# EAGLE library part CMODS6 (library FM_transmitter)
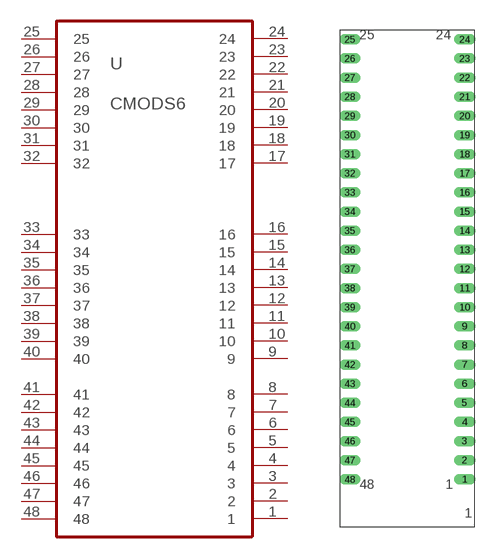
[diagram p0: symbol with the pads of CMODS6_DIP48; footprint CMODS6_DIP48]

Designator prefix -

## CMODS6  [CMODS6_DIP48]
1  1
2  2
3  3
4  4
5  5
6  6
7  7
8  8
9  9  out
10  10  out
11  11  out
12  12  out
13  13  out
14  14  out
15  15  out
16  16  out
17  17  out
18  18  out
19  19  out
20  20  out
21  21  out
22  22  out
23  23  out
24  24  out
25  25  out
26  26  out
27  27  out
28  28  out
29  29  out
30  30  out
31  31  out
32  32  out
33  33  out
34  34  out
35  35  out
36  36  out
37  37  out
38  38  out
39  39  out
40  40  out
41  41
42  42
43  43
44  44
45  45
46  46
47  47
48  48

## Footprint CMODS6_DIP48 (pad centres in mm)
drill 0.914 long: 1 7.62,-25.4; 2 7.62,-22.86; 3 7.62,-20.32; 4 7.62,-17.78; 5 7.62,-15.24; 6 7.62,-12.7; 7 7.62,-10.16; 8 7.62,-7.62; 9 7.62,-5.08; 10 7.62,-2.54; 11 7.62,0; 12 7.62,2.54; 13 7.62,5.08; 14 7.62,7.62; 15 7.62,10.16; 16 7.62,12.7; 17 7.62,15.24; 18 7.62,17.78; 19 7.62,20.32; 20 7.62,22.86; 21 7.62,25.4; 22 7.62,27.94; 23 7.62,30.48; 24 7.62,33.02; 25 -7.62,33.02; 26 -7.62,30.48; 27 -7.62,27.94; 28 -7.62,25.4; 29 -7.62,22.86; 30 -7.62,20.32; 31 -7.62,17.78; 32 -7.62,15.24; 33 -7.62,12.7; 34 -7.62,10.16; 35 -7.62,7.62; 36 -7.62,5.08; 37 -7.62,2.54; 38 -7.62,0; 39 -7.62,-2.54; 40 -7.62,-5.08; 41 -7.62,-7.62; 42 -7.62,-10.16; 43 -7.62,-12.7; 44 -7.62,-15.24; 45 -7.62,-17.78; 46 -7.62,-20.32; 47 -7.62,-22.86; 48 -7.62,-25.4